# Altium footprint library W3078.PcbLib: 1 footprints
Each footprint in its own frame and in the unit in brackets; x right, y up, seen from the top. Pads: shape width x height; smd on the part's side, far side on the other; paste and mask are expansions set on the pad; w line width, h text height; cw(c..) or ccw(c..) is an arc to the next point about the centre after c.
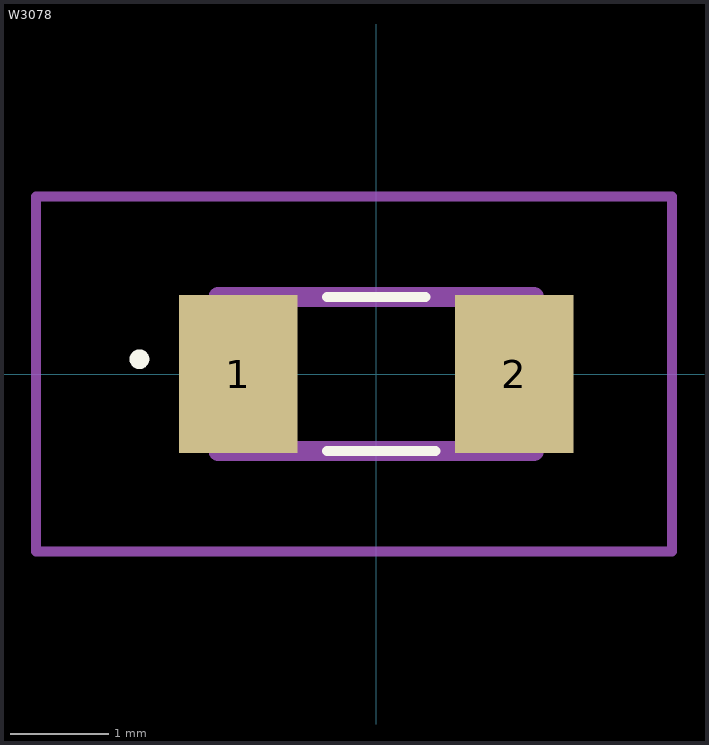
[diagram p0: the footprint, top view; thin cyan lines are the x and y axes]

## W3078 [mm]
pads (2):
  rect 1.2x1.6 smd: 1(-1.4,0) 2(1.4,0)
Top Overlay:
  lines w0.1: -0.5,-0.78 0.6,-0.78 ; -0.5,0.78 0.5,0.78 ; -2.4,0.1 -2.4,0.1 ; -2.4,0.1 ccw(c-2.4,0.15) -2.4,0.2 ; -2.4,0.1 cw(c-2.4,0.15) -2.4,0.2 ; -2.4,0.2 -2.4,0.2
Mechanical 15:
  lines w0.2: -1.6,-0.78 1.6,-0.78 1.6,0.78 -1.6,0.78 -1.6,-0.78
Mechanical 20:
  lines w0.1: -3.45,-1.8 3,-1.8 3,1.8 -3.45,1.8 -3.45,-1.8